# EAGLE library part MCP2561-*/? (library Volks73-MicrochipTechnology)
High-Speed CAN Transceiver Documentation Datasheet <http://ww1.microchip.com/downloads/en/DeviceDoc/20005167C.pdf> General Description The MCP2561/2 is a Microchip Technology Inc. second generation high-speed CAN transceiver. It serves as an interface between a CAN protocol controller and the physical two-wire CAN bus. The device meets the automotive requirements for high-speed (up to 1 Mb/s), low quiescent current, electromagnetic compatibility (EMC) and electrostatis discharge (ESD). Features Supports 1 Mb/s Operation Implements ISO-11898-2 and ISO-11898-5 Standard Physical Layer Requirements Very Low Standby Current (5 µA, typical) VIO Supply Pin to Interface Directly to CAN Controllers and Microcontrollers with 1.8V to 5.5V I/O SPLIT Output Pin to Stabilize Common Mode in Biased Split Termination Schemes CAN Bus Pins are Disconnected when Device is Unpowered: An Unpowered Node or Brown-Out Event will Not Load the CAN Bus Detection of Ground Fault: Permanent Dominant Detection on TXD Permanent Dominant Detection on Bus Power-on Reset and Voltage Brown-Out Protection on VDD Pin Protection Against Damage Due to Short-Circuit Conditions (Positive or Negative Battery Voltage) Protection Against High-Voltage Transients in Automotive Environments Automatic Thermal Shutdown Protection Suitable for 12V and 24V Systems Meets or exceeds stringent automotive design requirements including “Hardware Requirements for LIN, CAN and FlexRay Interfaces in Automotive Applications”, Version 1.3, May 2012 High-Noise Immunity Due to Differential Bus Implementation High Electrostatic Discharge (ESD) Protection on CANH and CANL, meeting the IEC61000-4-2 up to ±14 kV Available in PDIP-8L, SOIC-8L and 3x3 DFN-8L Temperature ranges: Extended (E): -40°C to +125°C High (H): -40°C to +150°C
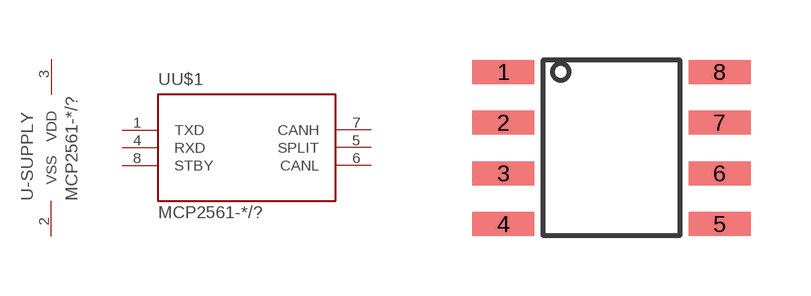
[diagram p3: symbol with the pads of SOIC-8; footprint SOIC-8]

Designator prefix U; gates U$1=2561 -SUPPLY=SUPPLY

## MCP2561-E/SN (CATEGORY: Integrated Circuits (ICs); DATA_RATE: -; DESCRIPTION: IC TXRX CAN 8SOIC; DOCUMENTATION_LINK: <a href="http://ww1.microchip.com/downloads/en/DeviceDoc/20005167C.pdf">Datasheet</a>; DOCUMENTATION_URL: http://ww1.microchip.com/downloads/en/DeviceDoc/20005167C.pdf; DUPLEX: Full; FAMILY: Interface - Drivers, Receivers, Transceivers; MANUFACTURER: Microchip Technology; MOUNTING_TYPE: Surface Mount; NUMBER_OF_DRIVERS-RECEIVERS: 1/1; OPERATING_TEMPERATURE: -40°C ~ 125°C; PACKAGE_CASE: 8-SOIC (0.154", 3.90mm Width); PART_NUMBER: MCP2561-E/SN; PROTOCOL: CAN; RECEIVER_HYSTERSIS: -; SERIES: -; SUPPLIER_DEVICE_PACKAGE: 8-SOIC N; SUPPLIER_ITEM_INFO: http://www.digikey.com/product-detail/en/MCP2561-E%2FSN/MCP2561-E%2FSN-ND/4079961; SUPPLIER_ITEM_LINK: <a href="http://www.digikey.com/product-detail/en/MCP2561-E%2FSN/MCP2561-E%2FSN-ND/4079961">Details</a>; SUPPLIER_ITEM_NUMBER: MCP2561-E/SN-ND; SUPPLIER_ITEM_URL: http://www.digikey.com/product-detail/en/MCP2561-E%2FSN/MCP2561-E%2FSN-ND/4079961; SUPPLIER_LINK: <a href="http://www.digikey.com">Home Page</a>; SUPPLIER_NAME: Digi-Key; SUPPLIER_URL: http://www.digikey.com; TYPE: Transceiver; VOLTAGE-SUPPLY: 4.5 V ~ 5.5 V)  [SOIC-8]
1  U$1:TXD
2  -SUPPLY:VSS  pwr
3  -SUPPLY:VDD  pwr
4  U$1:RXD
5  U$1:SPLIT
6  U$1:CANL
7  U$1:CANH
8  U$1:STBY

## Footprint SOIC-8 (pad centres in mm)
Small Outline Integrated Circuit (SOIC) 8-Pin
smd 1.55 x 0.6: 1 -2.7,1.905; 2 -2.7,0.635; 3 -2.7,-0.635; 4 -2.7,-1.905; 5 2.7,-1.905; 6 2.7,-0.635; 7 2.7,0.635; 8 2.7,1.905